# Altium footprint library LARS_409_ACDC.PCBLIB: 4 footprints
Each footprint in its own frame and in the unit in brackets; x right, y up, seen from the top. Pads: shape width x height; smd on the part's side, far side on the other; paste and mask are expansions set on the pad; w line width, h text height; cw(c..) or ccw(c..) is an arc to the next point about the centre after c.
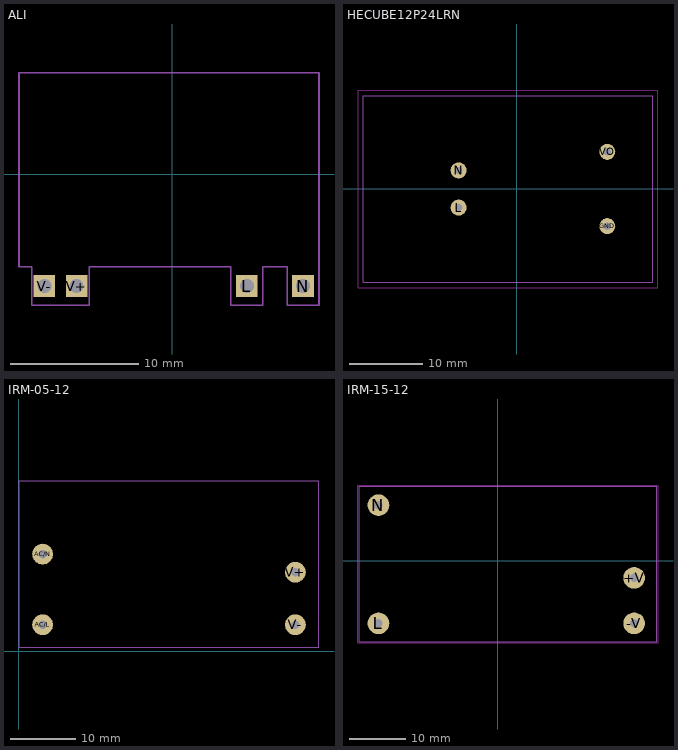
[diagram p0: the footprints below, top view; thin cyan lines are the x and y axes]

## ALI [mm]
pads (4):
  rect 1.7x1.7 / inner round 1.571 / far side rect 1.7x1.7 hole 1.1: L(5.85,-8.77) N(10.25,-8.77) V+(-7.48,-8.77) V-(-10.02,-8.77)
tPlace:
  lines w0.127: -12,-7.27 -12,7.93 11.5,7.93 11.5,-10.27 9,-10.27 9,-7.27 7.1,-7.27 7.1,-10.27 4.6,-10.27 4.6,-7.27 -6.5,-7.27 -6.5,-10.27 -11,-10.27 -11,-7.27 -12,-7.27

## HECUBE12P24LRN [mil]
pads (4):
  round 86 hole 39.37: GND(485.91,-200.24) L(-314.09,-100.24) N(-314.09,99.76) VO(485.91,199.76)
Top keep-out:
  lines w5: -855.43,-531.73 -855.43,531.26 758.74,531.26 758.74,-531.73 -855.43,-531.73
tPlace:
  lines w5: -825.91,-502.2 -825.91,501.73 729.21,501.73 729.21,-502.2 -825.91,-502.2
3D body "HECUBE12P24LRN v1.step": height 722.32, standoff -195.87, extent -835.35,-494.85 723.76,501.27

## IRM-05-12 [mm]
pads (4):
  round 3.17 hole 1.3: AC/L(3.65,4.05) AC/N(3.65,14.8) V+(42.15,12.05) V-(42.15,4.05)
tPlace:
  lines w0.127: 0.05,0.6 0.05,26 45.75,26 45.75,0.6 0.05,0.6
  text "AC/L" at 7.65,4.05 h1.97
  text "AC/N" at 7.65,14.8 h1.97
  text "V+" at 38.15,12.05 h1.97
  text "V-" at 38.15,4.05 h1.97
3D body "IRM-05-12.step": height 21.66, standoff -3.34, extent 0.106,0.628 45.806,26.028

## IRM-15-12 [mm]
pads (4):
  round 3.81 hole 1.5: +V(24,-3) -V(24,-11) L(-21,-11) N(-21,9.8)
Top keep-out:
  lines w0.152: -24.6,-14.4 -24.6,13.3 28.2,13.3 28.2,-14.4 -24.6,-14.4
tPlace:
  lines w0.152: -24.4,-14.2 -24.4,13.1 28,13.1 28,-14.2 -24.4,-14.2
3D body "IRM-15-12.step": height 24, standoff -4, extent -24.422,-14.235 27.978,12.965